# EAGLE library part ESP32-LOLIN (library SPCoast)
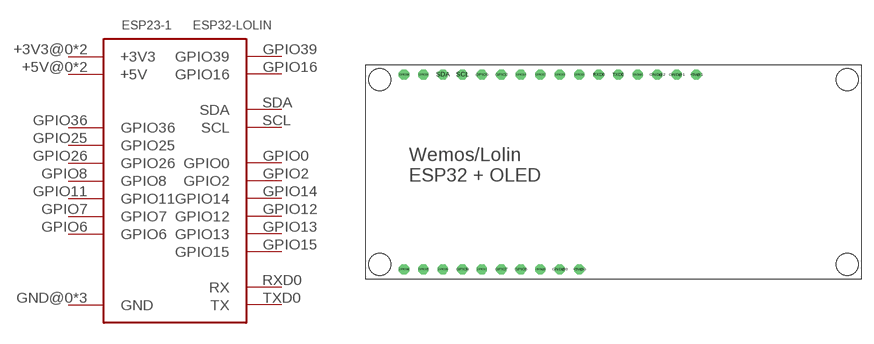
[diagram p65: symbol with the pads of ESP32-LOLIN-OLED; footprint ESP32-LOLIN-OLED]

Designator prefix ESP23-1

## ESP32-LOLIN  [ESP32-LOLIN-OLED]
+3V3@0  +3V3
+3V3@1  +3V3
+5V@0  +5V
+5V@1  +5V
GND@0  GND
GND@1  GND
GND@2  GND
GPIO0  GPIO0
GPIO2  GPIO2
GPIO6  GPIO6
GPIO7  GPIO7
GPIO8  GPIO8
GPIO11  GPIO11
GPIO12  GPIO12
GPIO13  GPIO13
GPIO14  GPIO14
GPIO15  GPIO15
GPIO16  GPIO16
GPIO25  GPIO25
GPIO26  GPIO26
GPIO36  GPIO36
GPIO39  GPIO39
RXD0  RX
SCL  SCL
SDA  SDA
TXD0  TX

## Footprint ESP32-LOLIN-OLED (pad centres in mm)
drill 0.8 octagon: +3V3@0 -9.525,-12.7; +3V3@1 3.175,12.7; +5V@0 -4.445,-12.7; +5V@1 10.795,12.7; GND@0 -6.985,-12.7; GND@1 8.255,12.7; GND@2 5.715,12.7; GPIO0 -17.145,12.7; GPIO2 -14.605,12.7; GPIO6 -12.065,-12.7; GPIO7 -14.605,-12.7; GPIO8 -19.685,-12.7; GPIO11 -17.145,-12.7; GPIO12 -9.525,12.7; GPIO13 -6.985,12.7; GPIO14 -12.065,12.7; GPIO15 -4.445,12.7; GPIO16 -24.765,12.7; GPIO25 -24.765,-12.7; GPIO26 -22.225,-12.7; GPIO36 -27.305,-12.7; GPIO39 -27.305,12.7; RXD0 -1.905,12.7; SCL -19.685,12.7; SDA -22.225,12.7; TXD0 0.635,12.7